# EAGLE library part 10CON_R_ANGLE (library Oded_Hand)
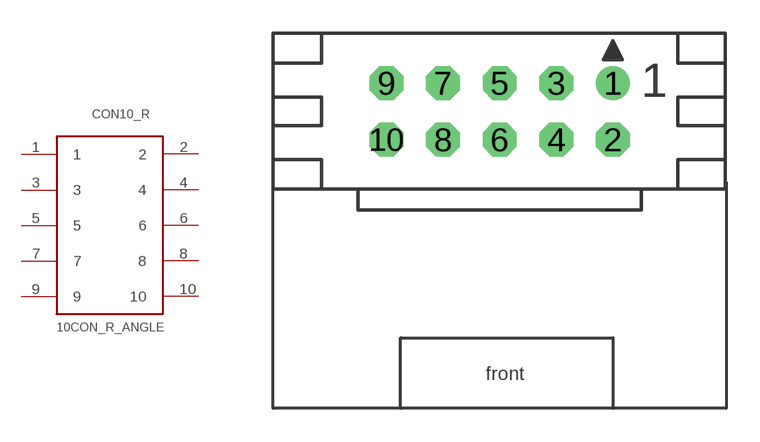
[diagram p2: symbol with the pads of CON10_R_ANGLE; footprint CON10_R_ANGLE]

Designator prefix CON10_R

## 10CON_R_ANGLE  [CON10_R_ANGLE]
1  1
2  2
3  3
4  4
5  5
6  6
7  7
8  8
9  9
10  10

## Footprint CON10_R_ANGLE (pad centres in mm)
CONNECTOR
drill 0.914 pad 1.524: 1 5.08,1.27
drill 0.914 pad 1.524 octagon: 2 5.08,-1.27; 3 2.54,1.27; 4 2.54,-1.27; 5 0,1.27; 6 0,-1.27; 7 -2.54,1.27; 8 -2.54,-1.27; 9 -5.08,1.27; 10 -5.08,-1.27